# EAGLE library part ZXMHC3F381N8TC (library micromousev2Parts)
MOSFET Dual N/P-Ch 30V 4.98A/4.13A SOIC8 Diodes Inc ZXMHC3F381N8TC Quad N/P-channel MOSFET Transistor, 8-Pin SO Source: Datasheet <https://www.diodes.com/assets/Datasheets/ZXMHC3F381N8.pdf>
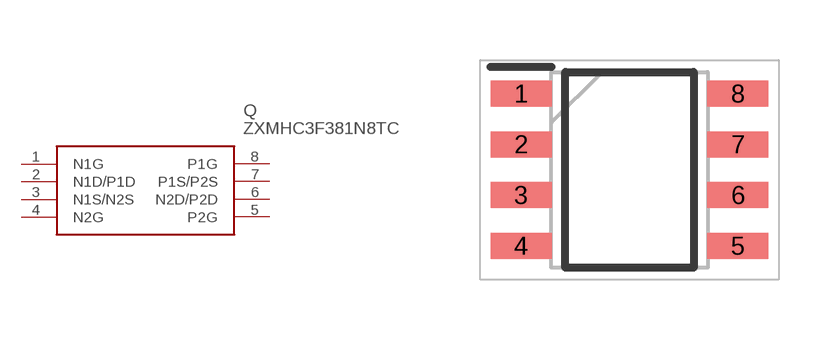
[diagram p6: symbol with the pads of SOIC127P600X175-8N; footprint SOIC127P600X175-8N]

Designator prefix Q

## ZXMHC3F381N8TC (ALLIED_NUMBER: 70438802; ALLIED_PRICE/STOCK: https://www.alliedelec.com/diodes-inc-zxmhc3f381n8tc/70438802/; ARROW_PART_NUMBER: ZXMHC3F381N8TC; ARROW_PRICE/STOCK: https://www.arrow.com/en/products/zxmhc3f381n8tc/diodes-incorporated; DESCRIPTION: MOSFET Dual N/P-Ch 30V 4.98A/4.13A SOIC8 Diodes Inc ZXMHC3F381N8TC Quad N/P-channel MOSFET Transistor, 8-Pin SO; HEIGHT: 1.75mm; MANUFACTURER_NAME: Diodes Inc.; MANUFACTURER_PART_NUMBER: ZXMHC3F381N8TC; RS_PART_NUMBER: 7515344P; RS_PRICE/STOCK: http://uk.rs-online.com/web/p/products/7515344P)  [SOIC127P600X175-8N]
1  N1G
2  N1D/P1D
3  N1S/N2S
4  N2G
5  P2G
6  N2D/P2D
7  P1S/P2S
8  P1G

## Footprint SOIC127P600X175-8N (pad centres in mm)
D (R-PDSO-G8)
smd 1.525 x 0.65: 1 -2.712,1.905; 2 -2.712,0.635; 3 -2.712,-0.635; 4 -2.712,-1.905; 5 2.712,-1.905; 6 2.712,-0.635; 7 2.712,0.635; 8 2.712,1.905